# EAGLE library part GRPB082VWQP (library con-sullins-grpb)
HEADER
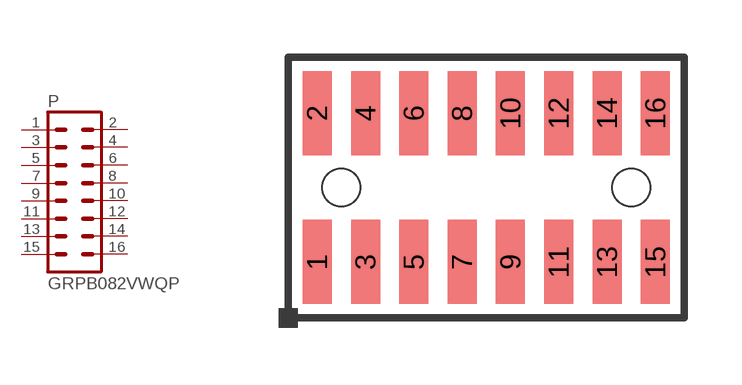
[diagram p5: symbol with the pads of GRPB082VWQP; footprint GRPB082VWQP]

Designator prefix P

## GRPB082VWQP  [GRPB082VWQP]
1  1  pas
2  2  pas
3  3  pas
4  4  pas
5  5  pas
6  6  pas
7  7  pas
8  8  pas
9  9  pas
10  10  pas
11  11  pas
12  12  pas
13  13  pas
14  14  pas
15  15  pas
16  16  pas

## Footprint GRPB082VWQP (pad centres in mm)
HEADER
smd 0.762 x 2.21: 1 -4.445,-1.956; 2 -4.445,1.956; 3 -3.175,-1.956; 4 -3.175,1.956; 5 -1.905,-1.956; 6 -1.905,1.956; 7 -0.635,-1.956; 8 -0.635,1.956; 9 0.635,-1.956; 10 0.635,1.956; 11 1.905,-1.956; 12 1.905,1.956; 13 3.175,-1.956; 14 3.175,1.956; 15 4.445,-1.956; 16 4.445,1.956
hole 1 at -3.81,0
hole 1 at 3.81,0